# Altium integrated library Comparator_LT1990ACS8PBF.IntLib: 1 symbol
Pins are listed as number, name and electrical type; pins without a type are passive.

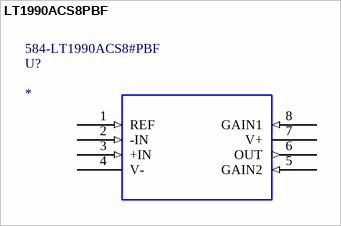
[diagram p0: symbol LT1990ACS8PBF]

## LT1990ACS8PBF
designator U?  Supplier Part Number 1: 584-LT1990ACS8#PBF
SP Amp DIFF AMP Single R-R O/P Â±18V/36V Automotive 8-Pin SOIC N Tube; MF: Analog Devices; MP: LT1990ACS8#PBF; Price: None; Availability: Good; SnapEDA_Link: https://www.snapeda.com/parts/LT1990ACS8%23PBF/Analog%20Devices/view-part/4348994/?ref=snap; Package: SOIC -8 Analog Devices; Value: *; Purchase-URL: https://pricing.snapeda.com/search/part/LT1990ACS8#PBF/?ref=eda; Supplier 1: Mouser; Check_prices: h
footprint SO-8_S
pins: 1 REF (in), 2 -IN (in), 3 +IN (in), 4 V- (power), 5 GAIN2 (in), 6 OUT (out), 7 V+ (power), 8 GAIN1 (in)